# Altium footprint library crystal_oscillators_rtc.PcbLib: 4 footprints
Each footprint in its own frame and in the unit in brackets; x right, y up, seen from the top. Pads: shape width x height; smd on the part's side, far side on the other; paste and mask are expansions set on the pad; w line width, h text height; cw(c..) or ccw(c..) is an arc to the next point about the centre after c.
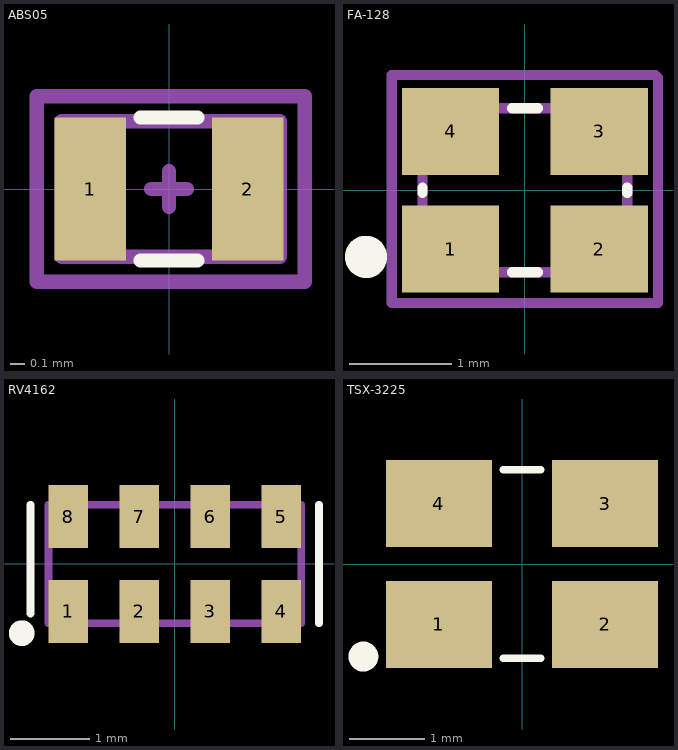
[diagram p0: the footprints below, top view; thin cyan lines are the x and y axes]

## ABS05 [mm] "ABS05 Crystal"
pads (2):
  rect 0.5x1 smd: 1(-0.55,0) 2(0.55,0)
Top Overlay:
  lines w0.1: -0.2,-0.5 0.2,-0.5 ; -0.2,0.5 0.2,0.5
Mechanical 13:
  lines w0.1: -0.75,-0.475 0.775,-0.475 0.775,0.475 -0.75,0.475 -0.75,-0.475
Mechanical 15:
  lines w0.1: -0.125,0 0.125,0 ; 0,-0.125 0,0.125 ; -0.925,-0.65 0.95,-0.65 0.95,0.65 -0.925,0.65 -0.925,-0.65
3D body: height 0.45, standoff 0, extent -0.8,-0.5 0.8,0.5
3D body: height 0.5, standoff 0.45, extent -0.725,-0.4 0.725,0.425

## FA-128 [mm] "Seiko Epson FA-128 Crystal"
pads (4):
  rect 0.95x0.85 smd: 1(-0.725,-0.575) 2(0.725,-0.575) 3(0.725,0.575) 4(-0.725,0.575)
Top Overlay:
  circle w0.254: c-1.55,-0.65 r0.079
  lines w0.1: -1,-0.025 -1,0.025 ; -0.125,-0.8 0.125,-0.8 ; -0.125,0.8 0.125,0.8 ; 1,-0.025 1,0.025
Mechanical 13:
  lines w0.1: -1,-0.8 -1,0 -1,0.8 0.975,0.8 1,0.775 1,-0.8 0,-0.8 -1,-0.8
Mechanical 15:
  lines w0.1: -1.3,-1.1 -1.3,1.125 1.275,1.125 1.3,1.1 1.3,-1.1 -1.3,-1.1
3D body: height 0.5, standoff 0, extent -1,-0.8 1,0.8

## RV4162 [mm] "RTC"
pads (8):
  rect 0.5x0.8 smd: 1(-1.35,-0.6) 2(-0.45,-0.6) 3(0.45,-0.6) 4(1.35,-0.6) 5(1.35,0.6) 6(0.45,0.6) 7(-0.45,0.6) 8(-1.35,0.6)
Top Overlay:
  circle w0.254: c-1.935,-0.875 r0.035
  lines w0.1: -1.825,-0.625 -1.825,0.75 ; 1.825,-0.75 1.825,0.75
Mechanical 13:
  lines w0.1: -1.6,-0.75 -1.6,0.75 1.6,0.75 1.6,-0.75 -1.6,-0.75
3D body: height 0.8, standoff 0, extent -1.6,-0.75 1.6,0.75

## TSX-3225 [mm] "Seiko Epson TSX-3225 Crystal"
pads (4):
  rect 1.4x1.15 smd: 1(-1.1,-0.8) 2(1.1,-0.8) 3(1.1,0.8) 4(-1.1,0.8)
Top Overlay:
  circle w0.254: c-2.1,-1.225 r0.071
  lines w0.1: -0.25,-1.25 0.25,-1.25 ; -0.25,1.25 0.25,1.25
3D body: height 0.6, standoff 0, extent -1.6,-1.25 1.6,1.25